# Altium schematic symbol library LQH43NH1R8J03L.SchLib: 1 symbol
Pins are listed as number, name and electrical type; pins without a type are passive.

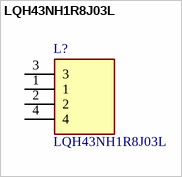
[diagram p0: symbol LQH43NH1R8J03L]

## LQH43NH1R8J03L
designator L?
LQH43NH_03 Series Inductor 1.8uH +/-5% 1812 (4532); Manufacturer_Name: Murata Electronics; Geometry.Height: 2.8mm; Mouser Part Number: 81-LQH43NH1R8J03L; Mouser Price/Stock: https://www.mouser.co.uk/ProductDetail/Murata-Electronics/LQH43NH1R8J03L?qs=17u8i%2FzlE8%2FmRHE2WNlgfg%3D%3D; Manufacturer_Part_Number: LQH43NH1R8J03L; Datasheet Link: https://psearch.en.murata.com/inductor/product/LQH43NH1R8J03%23.html
footprint LQH43MN470K03L
pins: 1, 2, 3, 4